# Altium footprint library CONN A-1JB.PcbLib: 1 footprints
Each footprint in its own frame and in the unit in brackets; x right, y up, seen from the top. Pads: shape width x height; smd on the part's side, far side on the other; paste and mask are expansions set on the pad; w line width, h text height; cw(c..) or ccw(c..) is an arc to the next point about the centre after c.
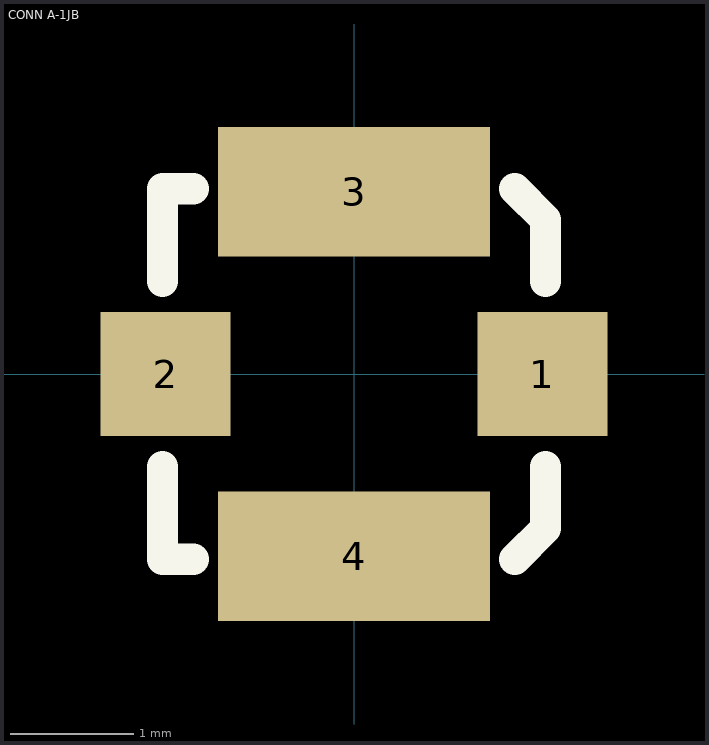
[diagram p0: the footprint, top view; thin cyan lines are the x and y axes]

## CONN A-1JB [mm]
pads (4):
  rect 1.05x1 smd: 1(1.525,0) 2(-1.525,0)
  rect 2.2x1.05 smd: 3(0,1.475) 4(0,-1.475)
Top Overlay:
  lines w0.254: -1.55,-0.75 -1.55,-1.5 -1.3,-1.5 ; -1.55,0.75 -1.55,1.5 -1.3,1.5 ; 1.3,-1.5 1.55,-1.25 1.55,-0.75 ; 1.3,1.5 1.55,1.25 1.55,0.75
3D body: height 0.15, standoff 0, extent -0.9,-1.5 0.9,-1.1
3D body: height 0.15, standoff 0, extent -0.9,1.1 0.9,1.5
3D body: height 0.15, standoff 0, extent -0.2,-0.3 1.55,0.3
3D body: height 0.15, standoff 0, extent -1.55,-0.3 -0.9,0.3
3D body: height 1.25, standoff 0.35, extent -0.992,-0.998 1,0.998
3D body: height 0.35, standoff 0.05, extent -1.3,-1.3 1.3,1.3